# EAGLE library part 94.13.0 (library relay_finder)
P.C.B. socket for the 55.53 relay
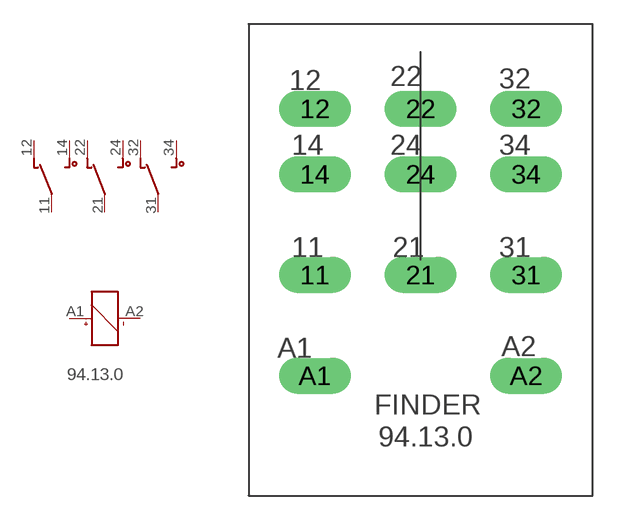
[diagram p1: symbol with the pads of 94.13.0; footprint 94.13.0]

Designator prefix RL

## 94.13.0  [94.13.0]
11  11  pas
12  12  pas
14  14  pas
21  21  pas
22  22  pas
24  24  pas
31  31  pas
32  32  pas
34  35  pas
A1  A1  pas
A2  A2  pas

## Footprint 94.13.0 (pad centres in mm)
drill 1.5 long: 11 -6.6,-0.95; 12 -6.6,9.45; 14 -6.6,5.35; 21 0,-0.95; 22 0,9.45; 24 0,5.35; 31 6.6,-0.95; 32 6.6,9.45; 34 6.6,5.35; A1 -6.6,-7.25; A2 6.6,-7.25